# EAGLE library part DRV8800 (library Railstars)
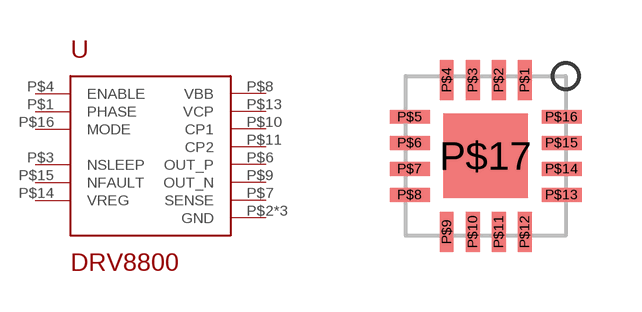
[diagram p18: symbol with the pads of PWQFN-16; footprint PWQFN-16]

Designator prefix -

## DRV8800  [PWQFN-16]
P$1  PHASE
P$2  GND  pwr
P$3  NSLEEP
P$4  ENABLE
P$6  OUT_P
P$7  SENSE
P$8  VBB
P$9  OUT_N
P$10  CP1
P$11  CP2
P$12  GND  pwr
P$13  VCP
P$14  VREG
P$15  NFAULT
P$16  MODE
P$17  GND  pwr

## Footprint PWQFN-16 (pad centres in mm)
smd 0.35 x 1: P$1 0.975,1.9; P$2 0.325,1.9; P$3 -0.325,1.9; P$4 -0.975,1.9; P$9 -0.975,-1.9; P$10 -0.325,-1.9; P$11 0.325,-1.9; P$12 0.975,-1.9
smd 1 x 0.35: P$5 -1.9,0.975; P$6 -1.9,0.325; P$7 -1.9,-0.325; P$8 -1.9,-0.975; P$13 1.9,-0.975; P$14 1.9,-0.325; P$15 1.9,0.325; P$16 1.9,0.975
smd 2.1 x 2.1: P$17 0,0